# EAGLE library part FDC658P (library CEDT_JANUARY_2015_v6)
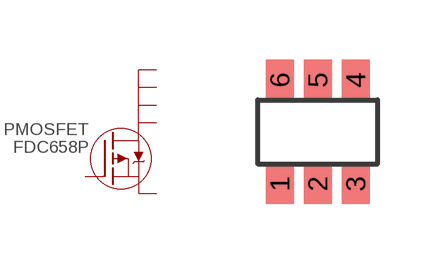
[diagram p23: symbol with the pads of SUPERSOT6; footprint SUPERSOT6]

Designator prefix PMOSFET

## FDC658P  [SUPERSOT6]
1  D1
2  D2
3  G
4  S
5  D3
6  D4

## Footprint SUPERSOT6 (pad centres in mm)
smd 0.7 x 1: 1 -0.95,-1.3; 2 0,-1.3; 3 0.95,-1.3; 4 0.95,1.3; 5 0,1.3; 6 -0.95,1.3